# Altium footprint library CAPC0603X030.PcbLib: 3 footprints
Each footprint in its own frame and in the unit in brackets; x right, y up, seen from the top. Pads: shape width x height; smd on the part's side, far side on the other; paste and mask are expansions set on the pad; w line width, h text height; cw(c..) or ccw(c..) is an arc to the next point about the centre after c.
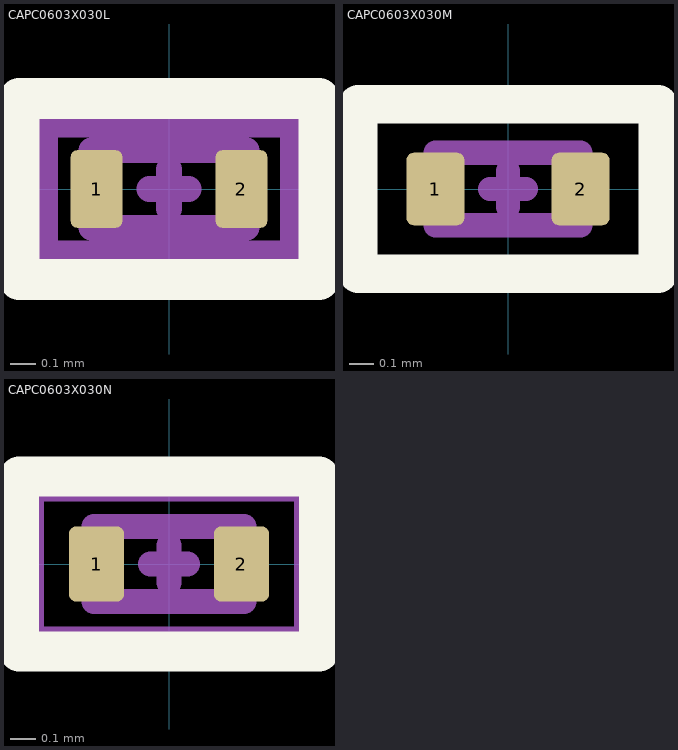
[diagram p0: the footprints below, top view; thin cyan lines are the x and y axes]

## CAPC0603X030L [mm] "Capacitors, Chip, Non-polarized"
height 0.33
pads (2):
  rrect25% 0.2x0.3 smd: 1(-0.28,0) 2(0.28,0)
Top Overlay:
  lines w0.16: -0.58,-0.35 0.58,-0.35 0.58,0.35 -0.58,0.35 -0.58,-0.35
Top Component Center:
  lines w0.1: -0.075,0 0.075,0 ; 0,-0.075 0,0.075
Top Courtyard:
  lines w0.1: -0.48,-0.25 0.48,-0.25 0.48,0.25 -0.48,0.25 -0.48,-0.25
Top Assembly:
  lines w0.1: -0.3,-0.15 0.3,-0.15 0.3,0.15 -0.3,0.15 -0.3,-0.15
  text ".Designator" at 0,0 h1
3D body "CAPC0603X030L.STEP": height 0.3, standoff 0, extent -0.3,-0.15 0.3,0.15

## CAPC0603X030M [mm] "Capacitors, Chip, Non-polarized"
height 0.33
pads (2):
  rrect25% 0.24x0.3 smd: 1(-0.3,0) 2(0.3,0)
Top Overlay:
  lines w0.16: -0.62,-0.35 0.62,-0.35 0.62,0.35 -0.62,0.35 -0.62,-0.35
Top Component Center:
  lines w0.1: -0.075,0 0.075,0 ; 0,-0.075 0,0.075
Top Courtyard:
  lines w0.1: -0.62,-0.35 0.62,-0.35 0.62,0.35 -0.62,0.35 -0.62,-0.35
Top Assembly:
  lines w0.1: -0.3,-0.15 0.3,-0.15 0.3,0.15 -0.3,0.15 -0.3,-0.15
  text ".Designator" at 0,0 h1
3D body "CAPC0603X030M.STEP": height 0.3, standoff 0, extent -0.3,-0.15 0.3,0.15

## CAPC0603X030N [mm] "Capacitors, Chip, Non-polarized"
height 0.33
pads (2):
  rrect25% 0.22x0.3 smd: 1(-0.29,0) 2(0.29,0)
Top Overlay:
  lines w0.16: -0.6,-0.35 0.6,-0.35 0.6,0.35 -0.6,0.35 -0.6,-0.35
Top Component Center:
  lines w0.1: -0.075,0 0.075,0 ; 0,-0.075 0,0.075
Top Courtyard:
  lines w0.1: -0.55,-0.3 0.55,-0.3 0.55,0.3 -0.55,0.3 -0.55,-0.3
Top Assembly:
  lines w0.1: -0.3,-0.15 0.3,-0.15 0.3,0.15 -0.3,0.15 -0.3,-0.15
  text ".Designator" at 0,0 h1
3D body "CAPC0603X030N.STEP": height 0.3, standoff 0, extent -0.3,-0.15 0.3,0.15